# EAGLE library part ROM_INTERFACE (library F030NG)
PIN HEADER
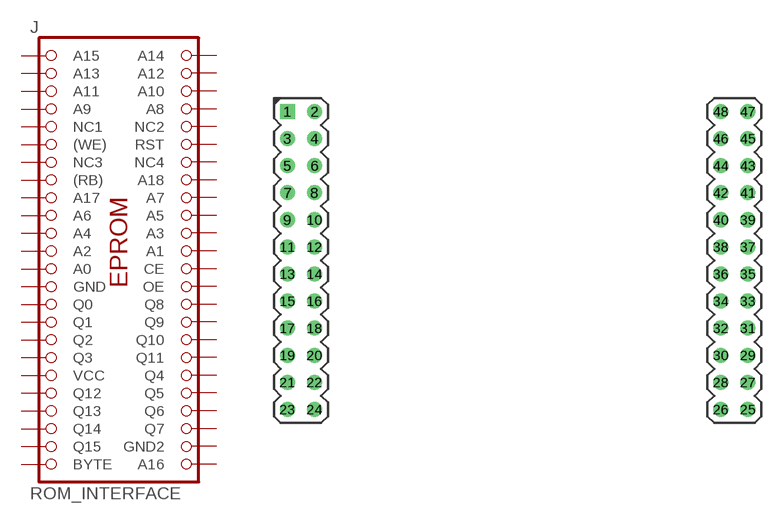
[diagram p2: symbol with the pads of PH_ROM_PORT; footprint PH_ROM_PORT]

Designator prefix J

## ROM_INTERFACE  [PH_ROM_PORT]
1  A15  pas
2  A14  pas
3  A13  pas
4  A12  pas
5  A11  pas
6  A10  pas
7  A9  pas
8  A8  pas
9  NC1  pas
10  NC2  pas
11  (WE)  pas
12  RST  pas
13  NC3  pas
14  NC4  pas
15  (RB)  pas
16  A18  pas
17  A17  pas
18  A7  pas
19  A6  pas
20  A5  pas
21  A4  pas
22  A3  pas
23  A2  pas
24  A1  pas
25  A0  pas
26  CE  pas
27  GND  pas
28  OE  pas
29  Q0  pas
30  Q8  pas
31  Q1  pas
32  Q9  pas
33  Q2  pas
34  Q10  pas
35  Q3  pas
36  Q11  pas
37  VCC  pas
38  Q4  pas
39  Q12  pas
40  Q5  pas
41  Q13  pas
42  Q6  pas
43  Q14  pas
44  Q7  pas
45  Q15  pas
46  GND2  pas
47  BYTE  pas
48  A16  pas

## Footprint PH_ROM_PORT (pad centres in mm)
PIN HEADER
drill 0.9 square: 1 -21.59,13.97
drill 0.9: 2 -19.05,13.97; 3 -21.59,11.43; 4 -19.05,11.43; 5 -21.59,8.89; 6 -19.05,8.89; 7 -21.59,6.35; 8 -19.05,6.35; 9 -21.59,3.81; 10 -19.05,3.81; 11 -21.59,1.27; 12 -19.05,1.27; 13 -21.59,-1.27; 14 -19.05,-1.27; 15 -21.59,-3.81; 16 -19.05,-3.81; 17 -21.59,-6.35; 18 -19.05,-6.35; 19 -21.59,-8.89; 20 -19.05,-8.89; 21 -21.59,-11.43; 22 -19.05,-11.43; 23 -21.59,-13.97; 24 -19.05,-13.97; 25 21.59,-13.97; 26 19.05,-13.97; 27 21.59,-11.43; 28 19.05,-11.43; 29 21.59,-8.89; 30 19.05,-8.89; 31 21.59,-6.35; 32 19.05,-6.35; 33 21.59,-3.81; 34 19.05,-3.81; 35 21.59,-1.27; 36 19.05,-1.27; 37 21.59,1.27; 38 19.05,1.27; 39 21.59,3.81; 40 19.05,3.81; 41 21.59,6.35; 42 19.05,6.35; 43 21.59,8.89; 44 19.05,8.89; 45 21.59,11.43; 46 19.05,11.43; 47 21.59,13.97; 48 19.05,13.97